# Altium integrated library SWT-34.IntLib: 1 symbol
Pins are listed as number, name and electrical type; pins without a type are passive.

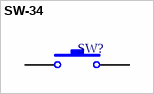
[diagram p0: symbol SW-34]

## SW-34
designator SW?  (value not drawn)
footprint SW-34
pins: 1, 2